# EAGLE library part ATTINY2313 (library ATtiny2313 microcontroller)
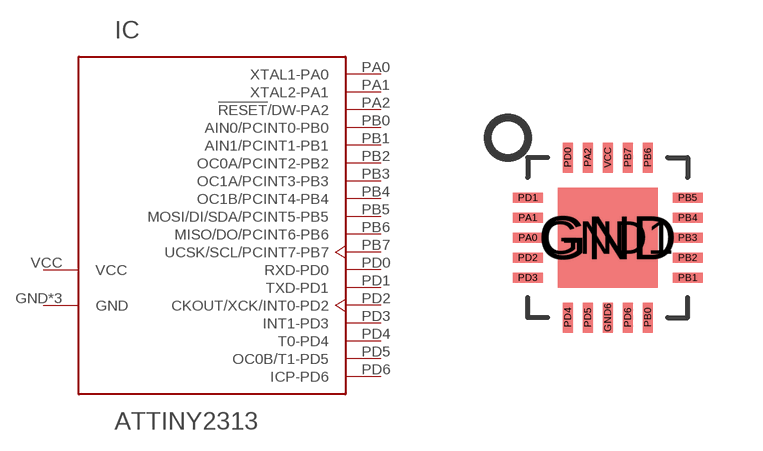
[diagram p0: symbol with the pads of QFN20; footprint QFN20]

Designator prefix IC

## ATTINY2313  [QFN20]
GND  GND  pwr
GND1  GND  pwr
GND6  GND  pwr
PA0  XTAL1-PA0
PA1  XTAL2-PA1
PA2  !RESET!/DW-PA2
PB0  AIN0/PCINT0-PB0
PB1  AIN1/PCINT1-PB1
PB2  OC0A/PCINT2-PB2
PB3  OC1A/PCINT3-PB3
PB4  OC1B/PCINT4-PB4
PB5  MOSI/DI/SDA/PCINT5-PB5  out
PB6  MISO/DO/PCINT6-PB6  in
PB7  UCSK/SCL/PCINT7-PB7
PD0  RXD-PD0  in
PD1  TXD-PD1  out
PD2  CKOUT/XCK/INT0-PD2  out
PD3  INT1-PD3
PD4  T0-PD4
PD5  OC0B/T1-PD5
PD6  ICP-PD6
VCC  VCC  pwr

## Footprint QFN20 (pad centres in mm)
smd 2.5 x 2.5: GND 0,0; GND1 0,0
smd 0.25 x 0.75: GND6 0,-2; PA2 -0.5,2; PB0 1,-2; PB6 1,2; PB7 0.5,2; PD0 -1,2; PD4 -1,-2; PD5 -0.5,-2; PD6 0.5,-2; VCC 0,2
smd 0.75 x 0.25: PA0 -2,0; PA1 -2,0.5; PB1 2,-1; PB2 2,-0.5; PB3 2,0; PB4 2,0.5; PB5 2,1; PD1 -2,1; PD2 -2,-0.5; PD3 -2,-1